# EAGLE library part DS1307 (library _dallas)
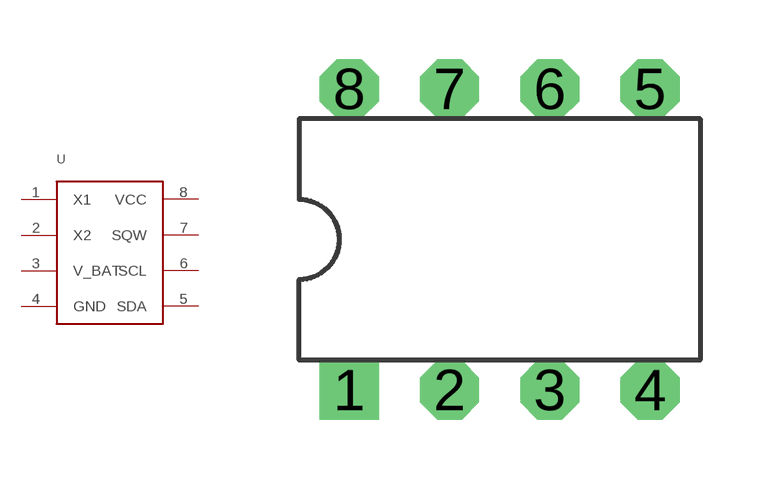
[diagram p0: symbol with the pads of DIL-08; footprint DIL-08]

Designator prefix -

## DS1307  [DIL-08]
1  X1
2  X2
3  V_BAT
4  GND  pas
5  SDA
6  SCL
7  SQW
8  VCC  pas

## Footprint DIL-08 (pad centres in mm)
drill 0.813 pad 1.499 square: 1 -3.81,-3.81
drill 0.813 pad 1.499 octagon: 2 -1.27,-3.81; 3 1.27,-3.81; 4 3.81,-3.81; 5 3.81,3.81; 6 1.27,3.81; 7 -1.27,3.81; 8 -3.81,3.81